# Altium integrated library Renesas Microcontroller M32R.IntLib: 17 symbols (part 2 of 2)
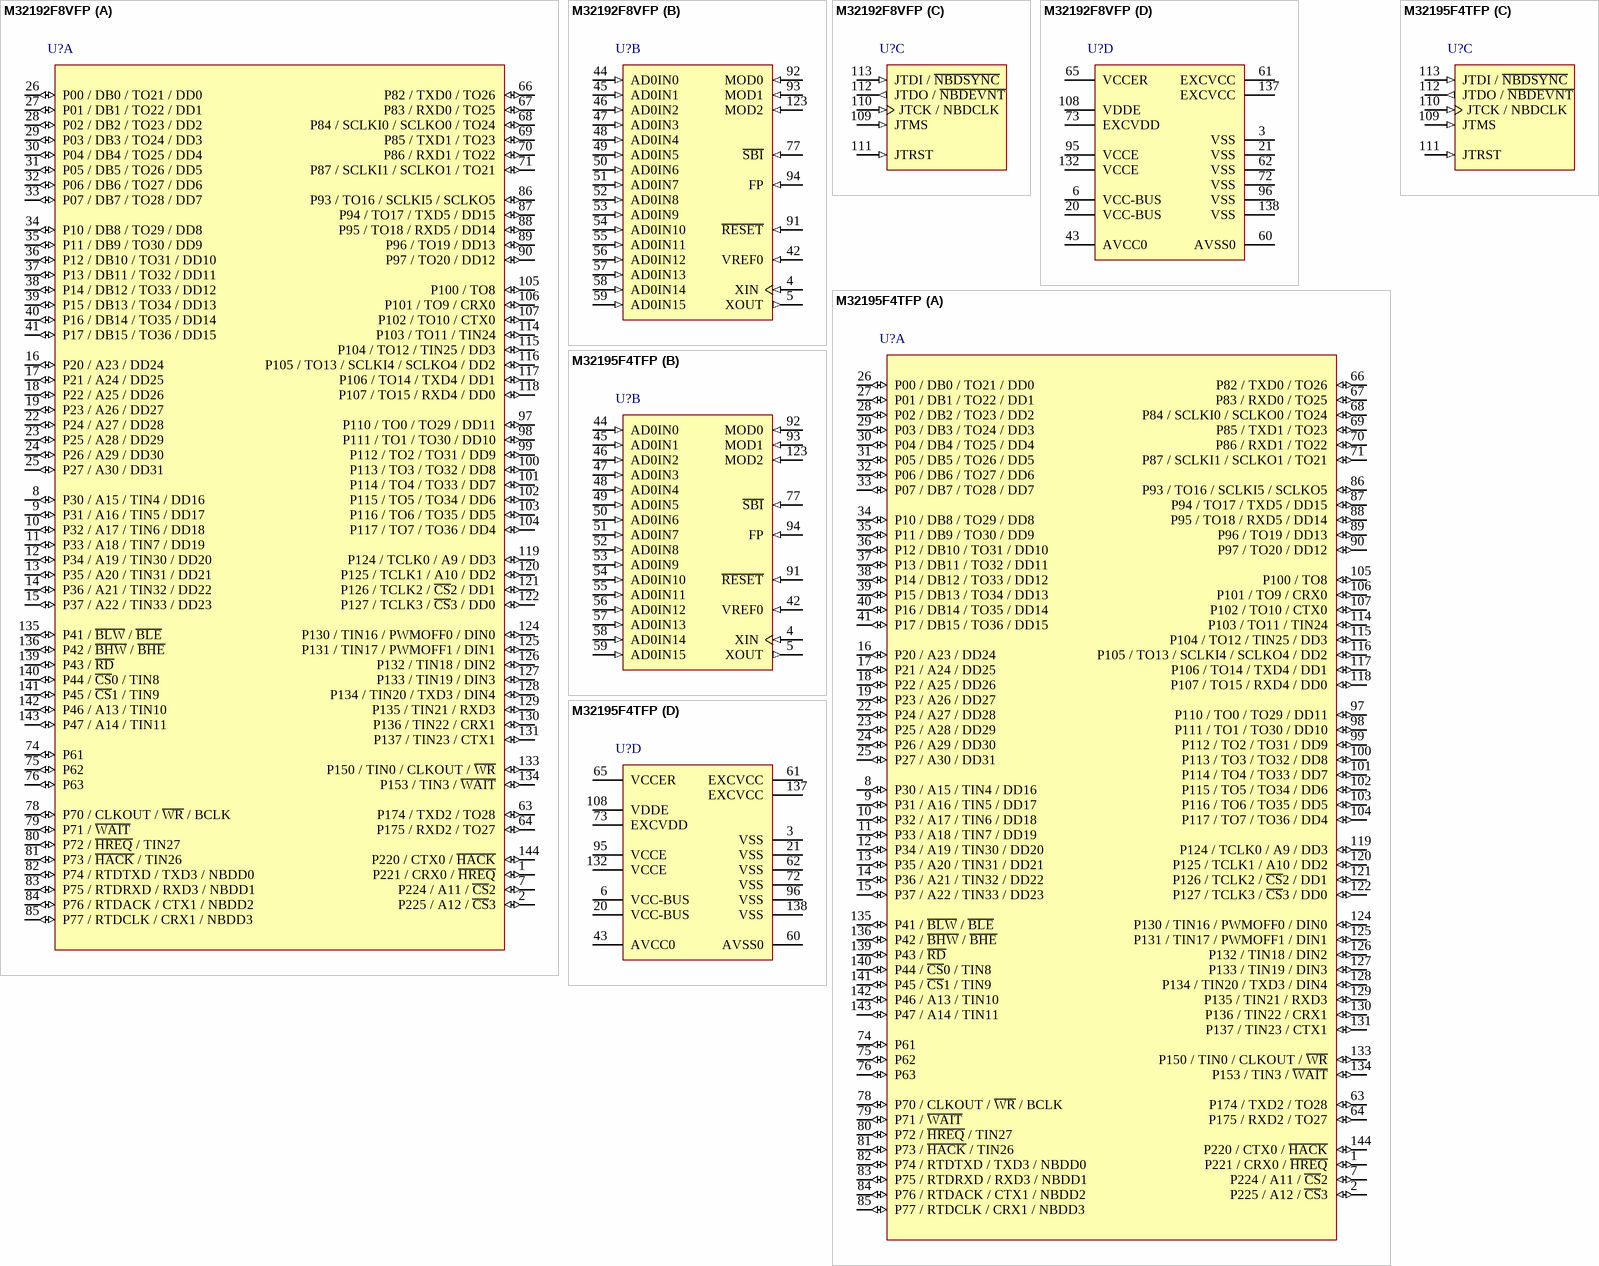
[diagram p9: symbols M32192F8VFP to M32195F4TFP]

## M32195F4TFP
designator U?
Flash Memory M32R/ECU Series, 32195 Group MCU, 160 MHz, 512K ROM, 32K RAM, 144P6Q-A Pkg, -40 to 85 deg C; Published: 28-Aug-2009; DatasheetVersion: Rev.1.10, Apr-2007; PackageVersion: Sep-2005; PackageReference: PLQP0144KA-A; Publisher: Altium Limited; PackageDescription: 144-Pin Plastic Low Profile QFP, 20 x 20 x 1.4 mm Body, 0.5 mm Pitch; Code_JEITA: P-LQFP144-20x20-0.50; Code_IPC: SQFP50P2200X2200-144; ComponentLink1Description: Manufacturer Link; ComponentLink1URL: http://sg.renesas.com/fmwk.jsp?cnt=m32r_family_landing.jsp&fp=/products/mpumcu/m32r_family/; ComponentLink2Description: Datasheet; ComponentLink2URL: http://documentation.renesas.com/eng/products/mpumcu/rej09b0123_32192_195_196hm.pdf; ComponentLink3Description: Packaging Specification; ComponentLink3URL: http://sg.renesas.com/media/products/common_info/package/pdf/ic/code/plqp0144ka_a.pdf
footprint PLQP0144KA-A_N (Shrink QFP, 144-Leads, Body 20x20mm, Pitch 0.5mm, IPC Medium Density)
footprint PLQP0144KA-A_L (Shrink QFP, 144-Leads, Body 20x20mm, Pitch 0.5mm, IPC High Density)
footprint PLQP0144KA-A_M (Shrink QFP, 144-Leads, Body 20x20mm, Pitch 0.5mm, IPC Low Density)
part A pins: 1 P221 / CRX0 / ~{HREQ} (io), 2 P225 / A12 / ~{CS}3 (io), 7 P224 / A11 / ~{CS}2 (io), 8 P30 / A15 / TIN4 / DD16 (io), 9 P31 / A16 / TIN5 / DD17 (io), 10 P32 / A17 / TIN6 / DD18 (io), 11 P33 / A18 / TIN7 / DD19 (io), 12 P34 / A19 / TIN30 / DD20 (io), 13 P35 / A20 / TIN31 / DD21 (io), 14 P36 / A21 / TIN32 / DD22 (io), 15 P37 / A22 / TIN33 / DD23 (io), 16 P20 / A23 / DD24 (io), 17 P21 / A24 / DD25 (io), 18 P22 / A25 / DD26 (io), 19 P23 / A26 / DD27 (io), 22 P24 / A27 / DD28 (io), 23 P25 / A28 / DD29 (io), 24 P26 / A29 / DD30 (io), 25 P27 / A30 / DD31 (io), 26 P00 / DB0 / TO21 / DD0 (io), 27 P01 / DB1 / TO22 / DD1 (io), 28 P02 / DB2 / TO23 / DD2 (io), 29 P03 / DB3 / TO24 / DD3 (io), 30 P04 / DB4 / TO25 / DD4 (io), 31 P05 / DB5 / TO26 / DD5 (io), 32 P06 / DB6 / TO27 / DD6 (io), 33 P07 / DB7 / TO28 / DD7 (io), 34 P10 / DB8 / TO29 / DD8 (io), 35 P11 / DB9 / TO30 / DD9 (io), 36 P12 / DB10 / TO31 / DD10 (io), 37 P13 / DB11 / TO32 / DD11 (io), 38 P14 / DB12 / TO33 / DD12 (io), 39 P15 / DB13 / TO34 / DD13 (io), 40 P16 / DB14 / TO35 / DD14 (io), 41 P17 / DB15 / TO36 / DD15 (io), 63 P174 / TXD2 / TO28 (io), 64 P175 / RXD2 / TO27 (io), 66 P82 / TXD0 / TO26 (io), 67 P83 / RXD0 / TO25 (io), 68 P84 / SCLKI0 / SCLKO0 / TO24 (io), 69 P85 / TXD1 / TO23 (io), 70 P86 / RXD1 / TO22 (io), 71 P87 / SCLKI1 / SCLKO1 / TO21 (io), 74 P61 (io), 75 P62 (io), 76 P63 (io), 78 P70 / CLKOUT / ~{WR} / BCLK (io), 79 P71 / ~{WAIT} (io), 80 P72 / ~{HREQ} / TIN27 (io), 81 P73 / ~{HACK} / TIN26 (io), 82 P74 / RTDTXD / TXD3 / NBDD0 (io), 83 P75 / RTDRXD / RXD3 / NBDD1 (io), 84 P76 / RTDACK / CTX1 / NBDD2 (io), 85 P77 / RTDCLK / CRX1 / NBDD3 (io), 86 P93 / TO16 / SCLKI5 / SCLKO5 (io), 87 P94 / TO17 / TXD5 / DD15 (io), 88 P95 / TO18 / RXD5 / DD14 (io), 89 P96 / TO19 / DD13 (io), 90 P97 / TO20 / DD12 (io), 97 P110 / TO0 / TO29 / DD11 (io), 98 P111 / TO1 / TO30 / DD10 (io), 99 P112 / TO2 / TO31 / DD9 (io), 100 P113 / TO3 / TO32 / DD8 (io), 101 P114 / TO4 / TO33 / DD7 (io), 102 P115 / TO5 / TO34 / DD6 (io), 103 P116 / TO6 / TO35 / DD5 (io), 104 P117 / TO7 / TO36 / DD4 (io), 105 P100 / TO8 (io), 106 P101 / TO9 / CRX0 (io), 107 P102 / TO10 / CTX0 (io), 114 P103 / TO11 / TIN24 (io), 115 P104 / TO12 / TIN25 / DD3 (io), 116 P105 / TO13 / SCLKI4 / SCLKO4 / DD2 (io), 117 P106 / TO14 / TXD4 / DD1 (io), 118 P107 / TO15 / RXD4 / DD0 (io), 119 P124 / TCLK0 / A9 / DD3 (io), 120 P125 / TCLK1 / A10 / DD2 (io), 121 P126 / TCLK2 / ~{CS}2 / DD1 (io), 122 P127 / TCLK3 / ~{CS}3 / DD0 (io), 124 P130 / TIN16 / PWMOFF0 / DIN0 (io), 125 P131 / TIN17 / PWMOFF1 / DIN1 (io), 126 P132 / TIN18 / DIN2 (io), 127 P133 / TIN19 / DIN3 (io), 128 P134 / TIN20 / TXD3 / DIN4 (io), 129 P135 / TIN21 / RXD3 (io), 130 P136 / TIN22 / CRX1 (io), 131 P137 / TIN23 / CTX1 (io), 133 P150 / TIN0 / CLKOUT / ~{WR} (io), 134 P153 / TIN3 / ~{WAIT} (io), 135 P41 / ~{BLW} / ~{BLE} (io), 136 P42 / ~{BHW} / ~{BHE} (io), 139 P43 / ~{RD} (io), 140 P44 / ~{CS}0 / TIN8 (io), 141 P45 / ~{CS}1 / TIN9 (io), 142 P46 / A13 / TIN10 (io), 143 P47 / A14 / TIN11 (io), 144 P220 / CTX0 / ~{HACK} (io)
part B pins: 4 XIN (in), 5 XOUT (out), 42 VREF0 (in), 44 AD0IN0 (in), 45 AD0IN1 (in), 46 AD0IN2 (in), 47 AD0IN3 (in), 48 AD0IN4 (in), 49 AD0IN5 (in), 50 AD0IN6 (in), 51 AD0IN7 (in), 52 AD0IN8 (in), 53 AD0IN9 (in), 54 AD0IN10 (in), 55 AD0IN11 (in), 56 AD0IN12 (in), 57 AD0IN13 (in), 58 AD0IN14 (in), 59 AD0IN15 (in), 77 ~{SBI} (in), 91 ~{RESET} (in), 92 MOD0 (in), 93 MOD1 (in), 94 FP (in), 123 MOD2 (in)
part C pins: 109 JTMS (in), 110 JTCK / NBDCLK (in), 111 JTRST (in), 112 JTDO / ~{NBDEVNT} (out), 113 JTDI / ~{NBDSYNC} (in)
part D pins: 3 VSS (power), 6 VCC-BUS (power), 20 VCC-BUS (power), 21 VSS (power), 43 AVCC0 (power), 60 AVSS0 (power), 61 EXCVCC, 62 VSS (power), 65 VCCER (power), 72 VSS (power), 73 EXCVDD, 95 VCCE (power), 96 VSS (power), 108 VDDE (power), 132 VCCE (power), 137 EXCVCC, 138 VSS (power)

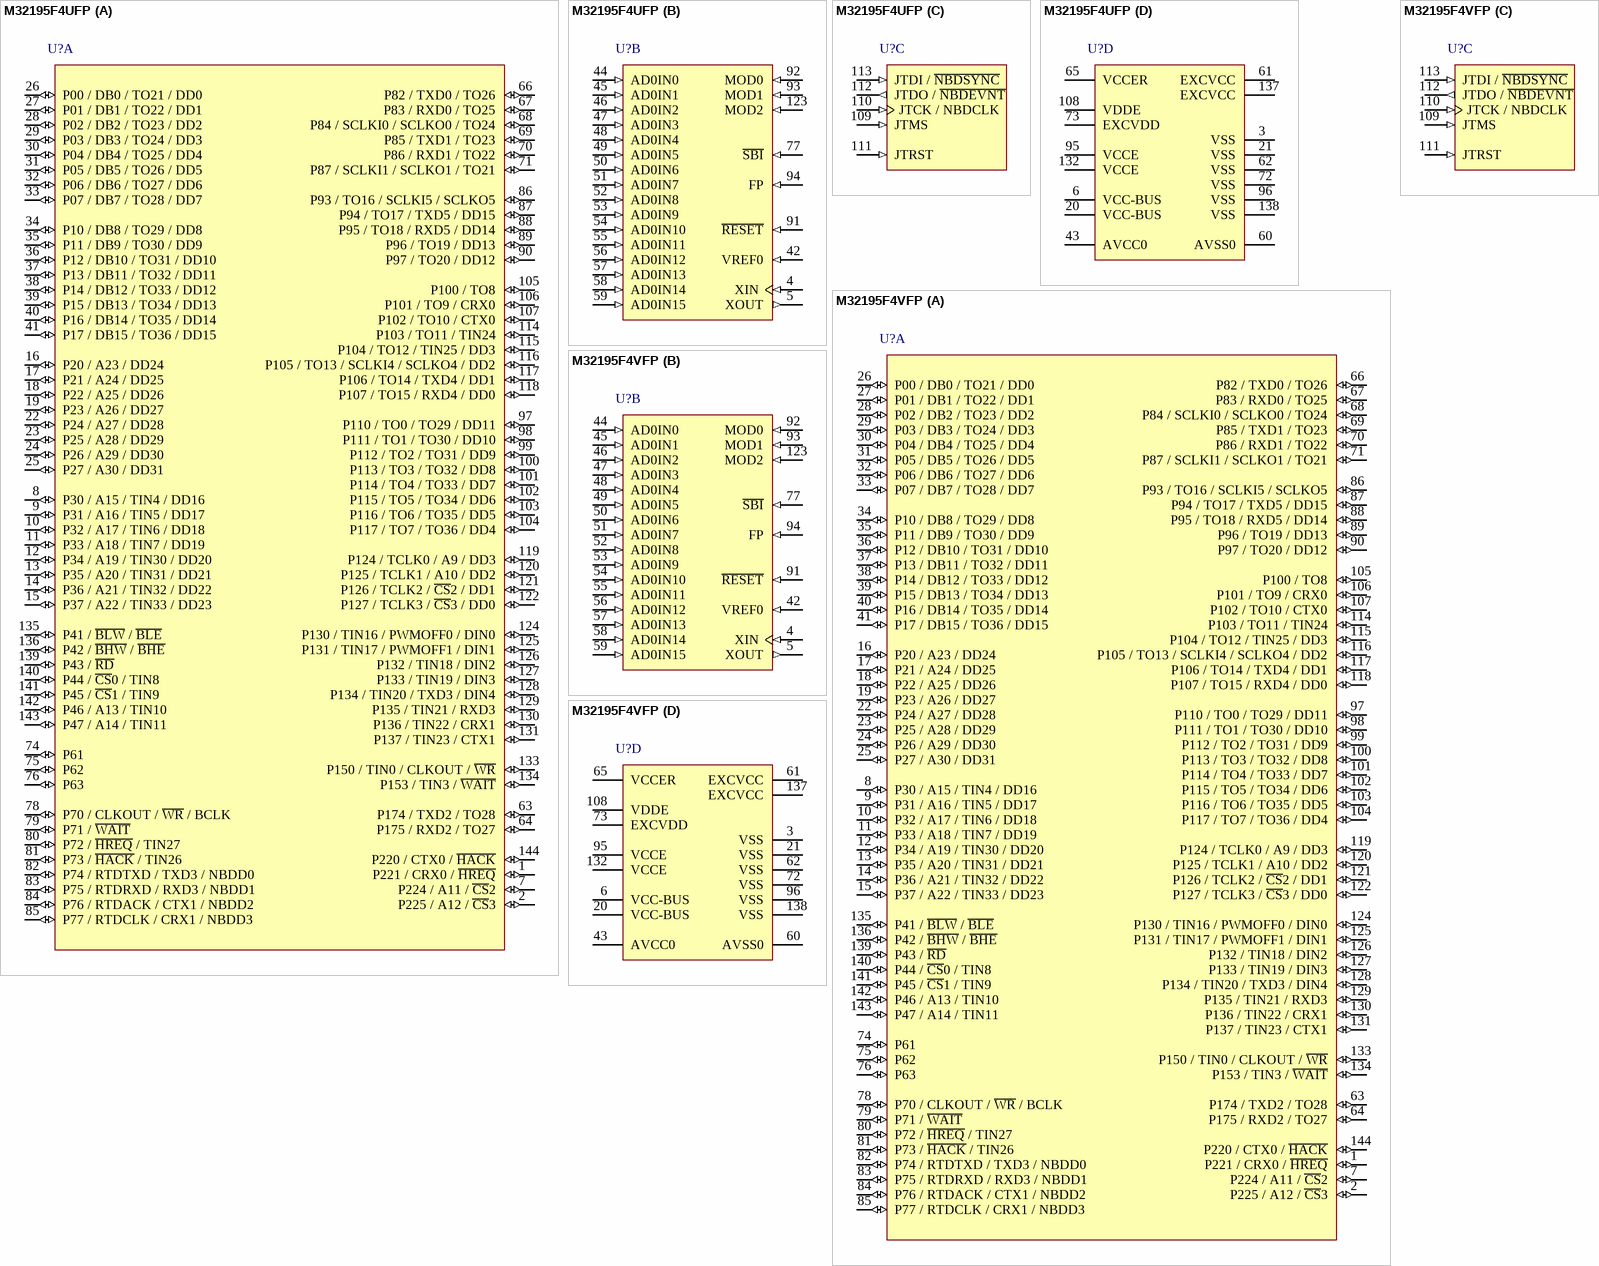
[diagram p6: symbols M32195F4UFP to M32195F4VFP]

## M32195F4UFP
designator U?
Flash Memory M32R/ECU Series, 32195 Group MCU, 160 MHz, 512K ROM, 32K RAM, 144P6Q-A Pkg, -40 to 105 deg C; Published: 28-Aug-2009; DatasheetVersion: Rev.1.10, Apr-2007; PackageVersion: Sep-2005; PackageReference: PLQP0144KA-A; Publisher: Altium Limited; PackageDescription: 144-Pin Plastic Low Profile QFP, 20 x 20 x 1.4 mm Body, 0.5 mm Pitch; Code_JEITA: P-LQFP144-20x20-0.50; Code_IPC: SQFP50P2200X2200-144; ComponentLink1Description: Manufacturer Link; ComponentLink1URL: http://sg.renesas.com/fmwk.jsp?cnt=m32r_family_landing.jsp&fp=/products/mpumcu/m32r_family/; ComponentLink2Description: Datasheet; ComponentLink2URL: http://documentation.renesas.com/eng/products/mpumcu/rej09b0123_32192_195_196hm.pdf; ComponentLink3Description: Packaging Specification; ComponentLink3URL: http://sg.renesas.com/media/products/common_info/package/pdf/ic/code/plqp0144ka_a.pdf
footprint PLQP0144KA-A_N (Shrink QFP, 144-Leads, Body 20x20mm, Pitch 0.5mm, IPC Medium Density)
footprint PLQP0144KA-A_L (Shrink QFP, 144-Leads, Body 20x20mm, Pitch 0.5mm, IPC High Density)
footprint PLQP0144KA-A_M (Shrink QFP, 144-Leads, Body 20x20mm, Pitch 0.5mm, IPC Low Density)
part A pins: 1 P221 / CRX0 / ~{HREQ} (io), 2 P225 / A12 / ~{CS}3 (io), 7 P224 / A11 / ~{CS}2 (io), 8 P30 / A15 / TIN4 / DD16 (io), 9 P31 / A16 / TIN5 / DD17 (io), 10 P32 / A17 / TIN6 / DD18 (io), 11 P33 / A18 / TIN7 / DD19 (io), 12 P34 / A19 / TIN30 / DD20 (io), 13 P35 / A20 / TIN31 / DD21 (io), 14 P36 / A21 / TIN32 / DD22 (io), 15 P37 / A22 / TIN33 / DD23 (io), 16 P20 / A23 / DD24 (io), 17 P21 / A24 / DD25 (io), 18 P22 / A25 / DD26 (io), 19 P23 / A26 / DD27 (io), 22 P24 / A27 / DD28 (io), 23 P25 / A28 / DD29 (io), 24 P26 / A29 / DD30 (io), 25 P27 / A30 / DD31 (io), 26 P00 / DB0 / TO21 / DD0 (io), 27 P01 / DB1 / TO22 / DD1 (io), 28 P02 / DB2 / TO23 / DD2 (io), 29 P03 / DB3 / TO24 / DD3 (io), 30 P04 / DB4 / TO25 / DD4 (io), 31 P05 / DB5 / TO26 / DD5 (io), 32 P06 / DB6 / TO27 / DD6 (io), 33 P07 / DB7 / TO28 / DD7 (io), 34 P10 / DB8 / TO29 / DD8 (io), 35 P11 / DB9 / TO30 / DD9 (io), 36 P12 / DB10 / TO31 / DD10 (io), 37 P13 / DB11 / TO32 / DD11 (io), 38 P14 / DB12 / TO33 / DD12 (io), 39 P15 / DB13 / TO34 / DD13 (io), 40 P16 / DB14 / TO35 / DD14 (io), 41 P17 / DB15 / TO36 / DD15 (io), 63 P174 / TXD2 / TO28 (io), 64 P175 / RXD2 / TO27 (io), 66 P82 / TXD0 / TO26 (io), 67 P83 / RXD0 / TO25 (io), 68 P84 / SCLKI0 / SCLKO0 / TO24 (io), 69 P85 / TXD1 / TO23 (io), 70 P86 / RXD1 / TO22 (io), 71 P87 / SCLKI1 / SCLKO1 / TO21 (io), 74 P61 (io), 75 P62 (io), 76 P63 (io), 78 P70 / CLKOUT / ~{WR} / BCLK (io), 79 P71 / ~{WAIT} (io), 80 P72 / ~{HREQ} / TIN27 (io), 81 P73 / ~{HACK} / TIN26 (io), 82 P74 / RTDTXD / TXD3 / NBDD0 (io), 83 P75 / RTDRXD / RXD3 / NBDD1 (io), 84 P76 / RTDACK / CTX1 / NBDD2 (io), 85 P77 / RTDCLK / CRX1 / NBDD3 (io), 86 P93 / TO16 / SCLKI5 / SCLKO5 (io), 87 P94 / TO17 / TXD5 / DD15 (io), 88 P95 / TO18 / RXD5 / DD14 (io), 89 P96 / TO19 / DD13 (io), 90 P97 / TO20 / DD12 (io), 97 P110 / TO0 / TO29 / DD11 (io), 98 P111 / TO1 / TO30 / DD10 (io), 99 P112 / TO2 / TO31 / DD9 (io), 100 P113 / TO3 / TO32 / DD8 (io), 101 P114 / TO4 / TO33 / DD7 (io), 102 P115 / TO5 / TO34 / DD6 (io), 103 P116 / TO6 / TO35 / DD5 (io), 104 P117 / TO7 / TO36 / DD4 (io), 105 P100 / TO8 (io), 106 P101 / TO9 / CRX0 (io), 107 P102 / TO10 / CTX0 (io), 114 P103 / TO11 / TIN24 (io), 115 P104 / TO12 / TIN25 / DD3 (io), 116 P105 / TO13 / SCLKI4 / SCLKO4 / DD2 (io), 117 P106 / TO14 / TXD4 / DD1 (io), 118 P107 / TO15 / RXD4 / DD0 (io), 119 P124 / TCLK0 / A9 / DD3 (io), 120 P125 / TCLK1 / A10 / DD2 (io), 121 P126 / TCLK2 / ~{CS}2 / DD1 (io), 122 P127 / TCLK3 / ~{CS}3 / DD0 (io), 124 P130 / TIN16 / PWMOFF0 / DIN0 (io), 125 P131 / TIN17 / PWMOFF1 / DIN1 (io), 126 P132 / TIN18 / DIN2 (io), 127 P133 / TIN19 / DIN3 (io), 128 P134 / TIN20 / TXD3 / DIN4 (io), 129 P135 / TIN21 / RXD3 (io), 130 P136 / TIN22 / CRX1 (io), 131 P137 / TIN23 / CTX1 (io), 133 P150 / TIN0 / CLKOUT / ~{WR} (io), 134 P153 / TIN3 / ~{WAIT} (io), 135 P41 / ~{BLW} / ~{BLE} (io), 136 P42 / ~{BHW} / ~{BHE} (io), 139 P43 / ~{RD} (io), 140 P44 / ~{CS}0 / TIN8 (io), 141 P45 / ~{CS}1 / TIN9 (io), 142 P46 / A13 / TIN10 (io), 143 P47 / A14 / TIN11 (io), 144 P220 / CTX0 / ~{HACK} (io)
part B pins: 4 XIN (in), 5 XOUT (out), 42 VREF0 (in), 44 AD0IN0 (in), 45 AD0IN1 (in), 46 AD0IN2 (in), 47 AD0IN3 (in), 48 AD0IN4 (in), 49 AD0IN5 (in), 50 AD0IN6 (in), 51 AD0IN7 (in), 52 AD0IN8 (in), 53 AD0IN9 (in), 54 AD0IN10 (in), 55 AD0IN11 (in), 56 AD0IN12 (in), 57 AD0IN13 (in), 58 AD0IN14 (in), 59 AD0IN15 (in), 77 ~{SBI} (in), 91 ~{RESET} (in), 92 MOD0 (in), 93 MOD1 (in), 94 FP (in), 123 MOD2 (in)
part C pins: 109 JTMS (in), 110 JTCK / NBDCLK (in), 111 JTRST (in), 112 JTDO / ~{NBDEVNT} (out), 113 JTDI / ~{NBDSYNC} (in)
part D pins: 3 VSS (power), 6 VCC-BUS (power), 20 VCC-BUS (power), 21 VSS (power), 43 AVCC0 (power), 60 AVSS0 (power), 61 EXCVCC, 62 VSS (power), 65 VCCER (power), 72 VSS (power), 73 EXCVDD, 95 VCCE (power), 96 VSS (power), 108 VDDE (power), 132 VCCE (power), 137 EXCVCC, 138 VSS (power)

## M32195F4VFP
designator U?
Flash Memory M32R/ECU Series, 32195 Group MCU, 128 MHz, 512K ROM, 32K RAM, 144P6Q-A Pkg, -40 to 125 deg C; Published: 28-Aug-2009; DatasheetVersion: Rev.1.10, Apr-2007; PackageVersion: Sep-2005; PackageReference: PLQP0144KA-A; Publisher: Altium Limited; PackageDescription: 144-Pin Plastic Low Profile QFP, 20 x 20 x 1.4 mm Body, 0.5 mm Pitch; Code_JEITA: P-LQFP144-20x20-0.50; Code_IPC: SQFP50P2200X2200-144; ComponentLink1Description: Manufacturer Link; ComponentLink1URL: http://sg.renesas.com/fmwk.jsp?cnt=m32r_family_landing.jsp&fp=/products/mpumcu/m32r_family/; ComponentLink2Description: Datasheet; ComponentLink2URL: http://documentation.renesas.com/eng/products/mpumcu/rej09b0123_32192_195_196hm.pdf; ComponentLink3Description: Packaging Specification; ComponentLink3URL: http://sg.renesas.com/media/products/common_info/package/pdf/ic/code/plqp0144ka_a.pdf
footprint PLQP0144KA-A_N (Shrink QFP, 144-Leads, Body 20x20mm, Pitch 0.5mm, IPC Medium Density)
footprint PLQP0144KA-A_L (Shrink QFP, 144-Leads, Body 20x20mm, Pitch 0.5mm, IPC High Density)
footprint PLQP0144KA-A_M (Shrink QFP, 144-Leads, Body 20x20mm, Pitch 0.5mm, IPC Low Density)
part A pins: 1 P221 / CRX0 / ~{HREQ} (io), 2 P225 / A12 / ~{CS}3 (io), 7 P224 / A11 / ~{CS}2 (io), 8 P30 / A15 / TIN4 / DD16 (io), 9 P31 / A16 / TIN5 / DD17 (io), 10 P32 / A17 / TIN6 / DD18 (io), 11 P33 / A18 / TIN7 / DD19 (io), 12 P34 / A19 / TIN30 / DD20 (io), 13 P35 / A20 / TIN31 / DD21 (io), 14 P36 / A21 / TIN32 / DD22 (io), 15 P37 / A22 / TIN33 / DD23 (io), 16 P20 / A23 / DD24 (io), 17 P21 / A24 / DD25 (io), 18 P22 / A25 / DD26 (io), 19 P23 / A26 / DD27 (io), 22 P24 / A27 / DD28 (io), 23 P25 / A28 / DD29 (io), 24 P26 / A29 / DD30 (io), 25 P27 / A30 / DD31 (io), 26 P00 / DB0 / TO21 / DD0 (io), 27 P01 / DB1 / TO22 / DD1 (io), 28 P02 / DB2 / TO23 / DD2 (io), 29 P03 / DB3 / TO24 / DD3 (io), 30 P04 / DB4 / TO25 / DD4 (io), 31 P05 / DB5 / TO26 / DD5 (io), 32 P06 / DB6 / TO27 / DD6 (io), 33 P07 / DB7 / TO28 / DD7 (io), 34 P10 / DB8 / TO29 / DD8 (io), 35 P11 / DB9 / TO30 / DD9 (io), 36 P12 / DB10 / TO31 / DD10 (io), 37 P13 / DB11 / TO32 / DD11 (io), 38 P14 / DB12 / TO33 / DD12 (io), 39 P15 / DB13 / TO34 / DD13 (io), 40 P16 / DB14 / TO35 / DD14 (io), 41 P17 / DB15 / TO36 / DD15 (io), 63 P174 / TXD2 / TO28 (io), 64 P175 / RXD2 / TO27 (io), 66 P82 / TXD0 / TO26 (io), 67 P83 / RXD0 / TO25 (io), 68 P84 / SCLKI0 / SCLKO0 / TO24 (io), 69 P85 / TXD1 / TO23 (io), 70 P86 / RXD1 / TO22 (io), 71 P87 / SCLKI1 / SCLKO1 / TO21 (io), 74 P61 (io), 75 P62 (io), 76 P63 (io), 78 P70 / CLKOUT / ~{WR} / BCLK (io), 79 P71 / ~{WAIT} (io), 80 P72 / ~{HREQ} / TIN27 (io), 81 P73 / ~{HACK} / TIN26 (io), 82 P74 / RTDTXD / TXD3 / NBDD0 (io), 83 P75 / RTDRXD / RXD3 / NBDD1 (io), 84 P76 / RTDACK / CTX1 / NBDD2 (io), 85 P77 / RTDCLK / CRX1 / NBDD3 (io), 86 P93 / TO16 / SCLKI5 / SCLKO5 (io), 87 P94 / TO17 / TXD5 / DD15 (io), 88 P95 / TO18 / RXD5 / DD14 (io), 89 P96 / TO19 / DD13 (io), 90 P97 / TO20 / DD12 (io), 97 P110 / TO0 / TO29 / DD11 (io), 98 P111 / TO1 / TO30 / DD10 (io), 99 P112 / TO2 / TO31 / DD9 (io), 100 P113 / TO3 / TO32 / DD8 (io), 101 P114 / TO4 / TO33 / DD7 (io), 102 P115 / TO5 / TO34 / DD6 (io), 103 P116 / TO6 / TO35 / DD5 (io), 104 P117 / TO7 / TO36 / DD4 (io), 105 P100 / TO8 (io), 106 P101 / TO9 / CRX0 (io), 107 P102 / TO10 / CTX0 (io), 114 P103 / TO11 / TIN24 (io), 115 P104 / TO12 / TIN25 / DD3 (io), 116 P105 / TO13 / SCLKI4 / SCLKO4 / DD2 (io), 117 P106 / TO14 / TXD4 / DD1 (io), 118 P107 / TO15 / RXD4 / DD0 (io), 119 P124 / TCLK0 / A9 / DD3 (io), 120 P125 / TCLK1 / A10 / DD2 (io), 121 P126 / TCLK2 / ~{CS}2 / DD1 (io), 122 P127 / TCLK3 / ~{CS}3 / DD0 (io), 124 P130 / TIN16 / PWMOFF0 / DIN0 (io), 125 P131 / TIN17 / PWMOFF1 / DIN1 (io), 126 P132 / TIN18 / DIN2 (io), 127 P133 / TIN19 / DIN3 (io), 128 P134 / TIN20 / TXD3 / DIN4 (io), 129 P135 / TIN21 / RXD3 (io), 130 P136 / TIN22 / CRX1 (io), 131 P137 / TIN23 / CTX1 (io), 133 P150 / TIN0 / CLKOUT / ~{WR} (io), 134 P153 / TIN3 / ~{WAIT} (io), 135 P41 / ~{BLW} / ~{BLE} (io), 136 P42 / ~{BHW} / ~{BHE} (io), 139 P43 / ~{RD} (io), 140 P44 / ~{CS}0 / TIN8 (io), 141 P45 / ~{CS}1 / TIN9 (io), 142 P46 / A13 / TIN10 (io), 143 P47 / A14 / TIN11 (io), 144 P220 / CTX0 / ~{HACK} (io)
part B pins: 4 XIN (in), 5 XOUT (out), 42 VREF0 (in), 44 AD0IN0 (in), 45 AD0IN1 (in), 46 AD0IN2 (in), 47 AD0IN3 (in), 48 AD0IN4 (in), 49 AD0IN5 (in), 50 AD0IN6 (in), 51 AD0IN7 (in), 52 AD0IN8 (in), 53 AD0IN9 (in), 54 AD0IN10 (in), 55 AD0IN11 (in), 56 AD0IN12 (in), 57 AD0IN13 (in), 58 AD0IN14 (in), 59 AD0IN15 (in), 77 ~{SBI} (in), 91 ~{RESET} (in), 92 MOD0 (in), 93 MOD1 (in), 94 FP (in), 123 MOD2 (in)
part C pins: 109 JTMS (in), 110 JTCK / NBDCLK (in), 111 JTRST (in), 112 JTDO / ~{NBDEVNT} (out), 113 JTDI / ~{NBDSYNC} (in)
part D pins: 3 VSS (power), 6 VCC-BUS (power), 20 VCC-BUS (power), 21 VSS (power), 43 AVCC0 (power), 60 AVSS0 (power), 61 EXCVCC, 62 VSS (power), 65 VCCER (power), 72 VSS (power), 73 EXCVDD, 95 VCCE (power), 96 VSS (power), 108 VDDE (power), 132 VCCE (power), 137 EXCVCC, 138 VSS (power)

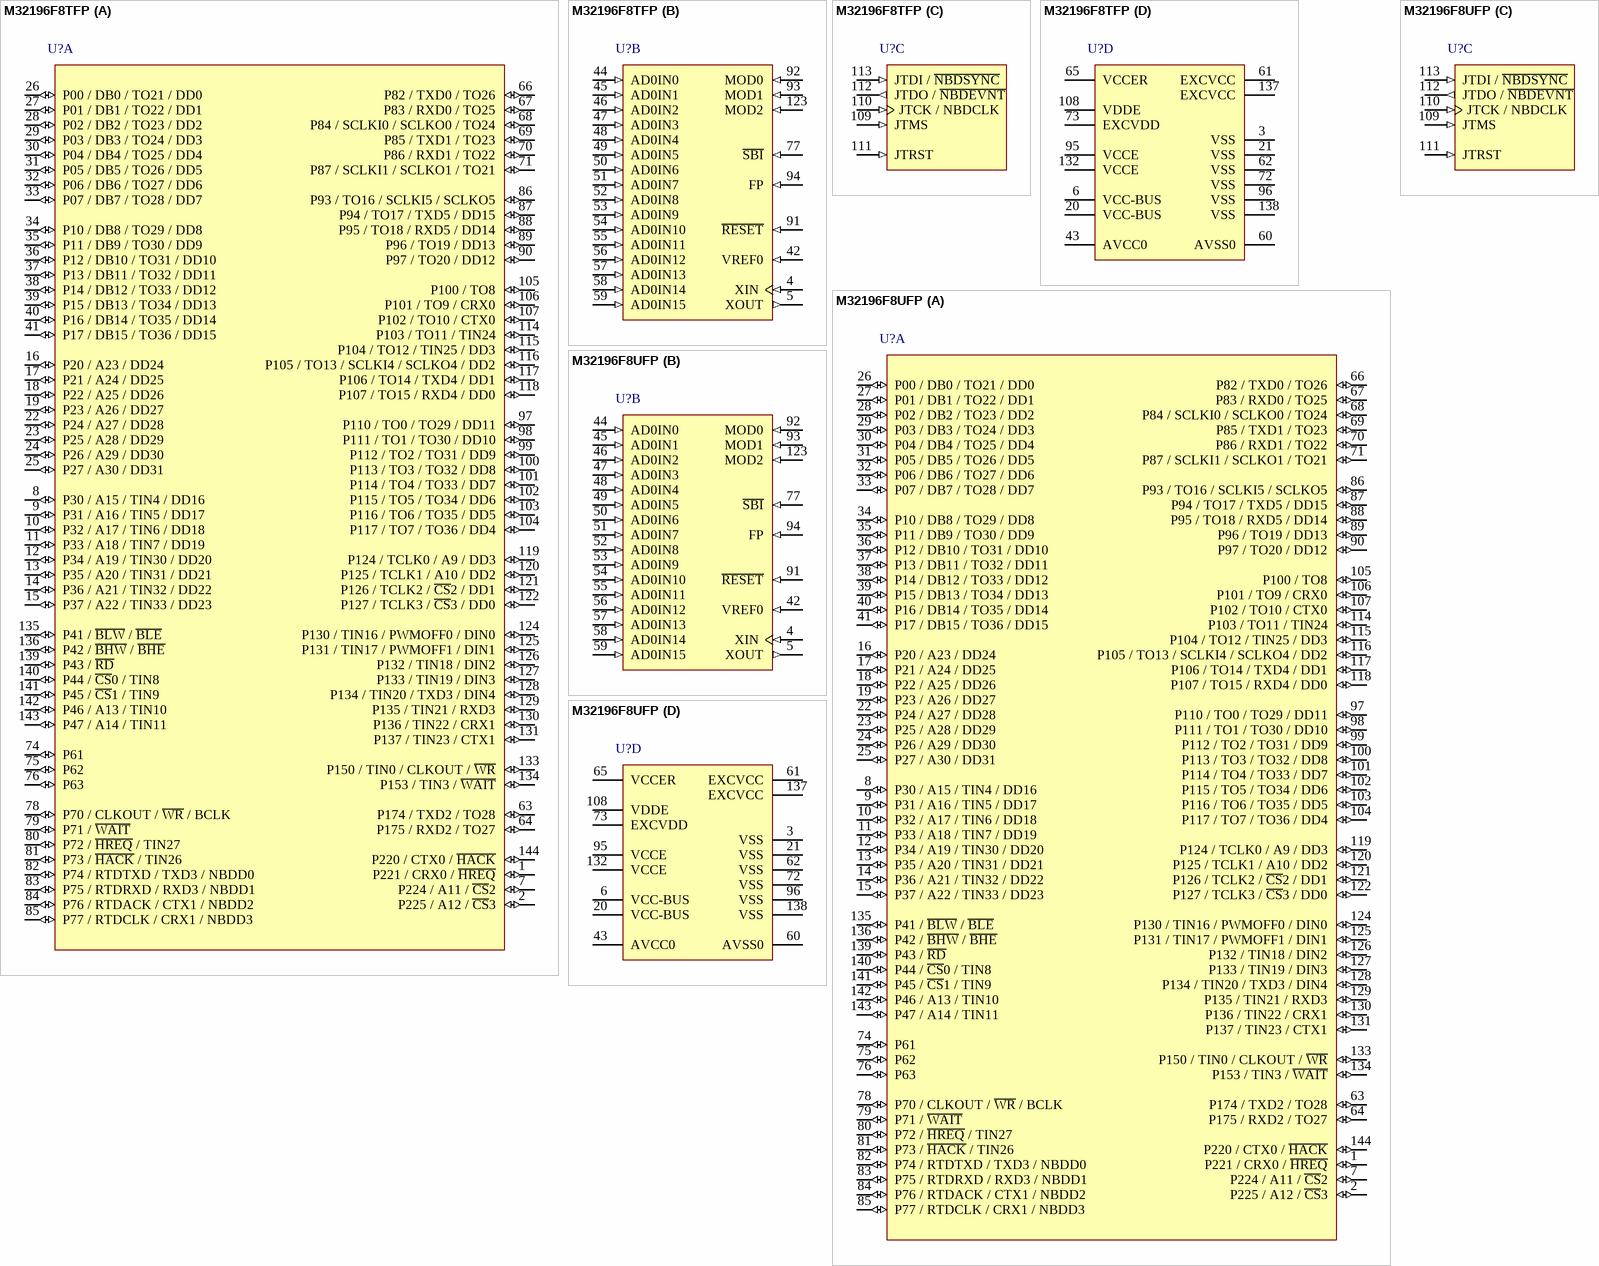
[diagram p7: symbols M32196F8TFP to M32196F8UFP]

## M32196F8TFP
designator U?
Flash Memory M32R/ECU Series, 32192 Group MCU, 160 MHz, 1M ROM, 64K RAM, 144P6Q-A Pkg, -40 to 85 deg C; Published: 28-Aug-2009; DatasheetVersion: Rev.1.10, Apr-2007; PackageVersion: Sep-2005; PackageReference: PLQP0144KA-A; Publisher: Altium Limited; PackageDescription: 144-Pin Plastic Low Profile QFP, 20 x 20 x 1.4 mm Body, 0.5 mm Pitch; Code_JEITA: P-LQFP144-20x20-0.50; Code_IPC: SQFP50P2200X2200-144; ComponentLink1Description: Manufacturer Link; ComponentLink1URL: http://sg.renesas.com/fmwk.jsp?cnt=m32r_family_landing.jsp&fp=/products/mpumcu/m32r_family/; ComponentLink2Description: Datasheet; ComponentLink2URL: http://documentation.renesas.com/eng/products/mpumcu/rej09b0123_32192_195_196hm.pdf; ComponentLink3Description: Packaging Specification; ComponentLink3URL: http://sg.renesas.com/media/products/common_info/package/pdf/ic/code/plqp0144ka_a.pdf
footprint PLQP0144KA-A_N (Shrink QFP, 144-Leads, Body 20x20mm, Pitch 0.5mm, IPC Medium Density)
footprint PLQP0144KA-A_L (Shrink QFP, 144-Leads, Body 20x20mm, Pitch 0.5mm, IPC High Density)
footprint PLQP0144KA-A_M (Shrink QFP, 144-Leads, Body 20x20mm, Pitch 0.5mm, IPC Low Density)
part A pins: 1 P221 / CRX0 / ~{HREQ} (io), 2 P225 / A12 / ~{CS}3 (io), 7 P224 / A11 / ~{CS}2 (io), 8 P30 / A15 / TIN4 / DD16 (io), 9 P31 / A16 / TIN5 / DD17 (io), 10 P32 / A17 / TIN6 / DD18 (io), 11 P33 / A18 / TIN7 / DD19 (io), 12 P34 / A19 / TIN30 / DD20 (io), 13 P35 / A20 / TIN31 / DD21 (io), 14 P36 / A21 / TIN32 / DD22 (io), 15 P37 / A22 / TIN33 / DD23 (io), 16 P20 / A23 / DD24 (io), 17 P21 / A24 / DD25 (io), 18 P22 / A25 / DD26 (io), 19 P23 / A26 / DD27 (io), 22 P24 / A27 / DD28 (io), 23 P25 / A28 / DD29 (io), 24 P26 / A29 / DD30 (io), 25 P27 / A30 / DD31 (io), 26 P00 / DB0 / TO21 / DD0 (io), 27 P01 / DB1 / TO22 / DD1 (io), 28 P02 / DB2 / TO23 / DD2 (io), 29 P03 / DB3 / TO24 / DD3 (io), 30 P04 / DB4 / TO25 / DD4 (io), 31 P05 / DB5 / TO26 / DD5 (io), 32 P06 / DB6 / TO27 / DD6 (io), 33 P07 / DB7 / TO28 / DD7 (io), 34 P10 / DB8 / TO29 / DD8 (io), 35 P11 / DB9 / TO30 / DD9 (io), 36 P12 / DB10 / TO31 / DD10 (io), 37 P13 / DB11 / TO32 / DD11 (io), 38 P14 / DB12 / TO33 / DD12 (io), 39 P15 / DB13 / TO34 / DD13 (io), 40 P16 / DB14 / TO35 / DD14 (io), 41 P17 / DB15 / TO36 / DD15 (io), 63 P174 / TXD2 / TO28 (io), 64 P175 / RXD2 / TO27 (io), 66 P82 / TXD0 / TO26 (io), 67 P83 / RXD0 / TO25 (io), 68 P84 / SCLKI0 / SCLKO0 / TO24 (io), 69 P85 / TXD1 / TO23 (io), 70 P86 / RXD1 / TO22 (io), 71 P87 / SCLKI1 / SCLKO1 / TO21 (io), 74 P61 (io), 75 P62 (io), 76 P63 (io), 78 P70 / CLKOUT / ~{WR} / BCLK (io), 79 P71 / ~{WAIT} (io), 80 P72 / ~{HREQ} / TIN27 (io), 81 P73 / ~{HACK} / TIN26 (io), 82 P74 / RTDTXD / TXD3 / NBDD0 (io), 83 P75 / RTDRXD / RXD3 / NBDD1 (io), 84 P76 / RTDACK / CTX1 / NBDD2 (io), 85 P77 / RTDCLK / CRX1 / NBDD3 (io), 86 P93 / TO16 / SCLKI5 / SCLKO5 (io), 87 P94 / TO17 / TXD5 / DD15 (io), 88 P95 / TO18 / RXD5 / DD14 (io), 89 P96 / TO19 / DD13 (io), 90 P97 / TO20 / DD12 (io), 97 P110 / TO0 / TO29 / DD11 (io), 98 P111 / TO1 / TO30 / DD10 (io), 99 P112 / TO2 / TO31 / DD9 (io), 100 P113 / TO3 / TO32 / DD8 (io), 101 P114 / TO4 / TO33 / DD7 (io), 102 P115 / TO5 / TO34 / DD6 (io), 103 P116 / TO6 / TO35 / DD5 (io), 104 P117 / TO7 / TO36 / DD4 (io), 105 P100 / TO8 (io), 106 P101 / TO9 / CRX0 (io), 107 P102 / TO10 / CTX0 (io), 114 P103 / TO11 / TIN24 (io), 115 P104 / TO12 / TIN25 / DD3 (io), 116 P105 / TO13 / SCLKI4 / SCLKO4 / DD2 (io), 117 P106 / TO14 / TXD4 / DD1 (io), 118 P107 / TO15 / RXD4 / DD0 (io), 119 P124 / TCLK0 / A9 / DD3 (io), 120 P125 / TCLK1 / A10 / DD2 (io), 121 P126 / TCLK2 / ~{CS}2 / DD1 (io), 122 P127 / TCLK3 / ~{CS}3 / DD0 (io), 124 P130 / TIN16 / PWMOFF0 / DIN0 (io), 125 P131 / TIN17 / PWMOFF1 / DIN1 (io), 126 P132 / TIN18 / DIN2 (io), 127 P133 / TIN19 / DIN3 (io), 128 P134 / TIN20 / TXD3 / DIN4 (io), 129 P135 / TIN21 / RXD3 (io), 130 P136 / TIN22 / CRX1 (io), 131 P137 / TIN23 / CTX1 (io), 133 P150 / TIN0 / CLKOUT / ~{WR} (io), 134 P153 / TIN3 / ~{WAIT} (io), 135 P41 / ~{BLW} / ~{BLE} (io), 136 P42 / ~{BHW} / ~{BHE} (io), 139 P43 / ~{RD} (io), 140 P44 / ~{CS}0 / TIN8 (io), 141 P45 / ~{CS}1 / TIN9 (io), 142 P46 / A13 / TIN10 (io), 143 P47 / A14 / TIN11 (io), 144 P220 / CTX0 / ~{HACK} (io)
part B pins: 4 XIN (in), 5 XOUT (out), 42 VREF0 (in), 44 AD0IN0 (in), 45 AD0IN1 (in), 46 AD0IN2 (in), 47 AD0IN3 (in), 48 AD0IN4 (in), 49 AD0IN5 (in), 50 AD0IN6 (in), 51 AD0IN7 (in), 52 AD0IN8 (in), 53 AD0IN9 (in), 54 AD0IN10 (in), 55 AD0IN11 (in), 56 AD0IN12 (in), 57 AD0IN13 (in), 58 AD0IN14 (in), 59 AD0IN15 (in), 77 ~{SBI} (in), 91 ~{RESET} (in), 92 MOD0 (in), 93 MOD1 (in), 94 FP (in), 123 MOD2 (in)
part C pins: 109 JTMS (in), 110 JTCK / NBDCLK (in), 111 JTRST (in), 112 JTDO / ~{NBDEVNT} (out), 113 JTDI / ~{NBDSYNC} (in)
part D pins: 3 VSS (power), 6 VCC-BUS (power), 20 VCC-BUS (power), 21 VSS (power), 43 AVCC0 (power), 60 AVSS0 (power), 61 EXCVCC, 62 VSS (power), 65 VCCER (power), 72 VSS (power), 73 EXCVDD, 95 VCCE (power), 96 VSS (power), 108 VDDE (power), 132 VCCE (power), 137 EXCVCC, 138 VSS (power)

## M32196F8UFP
designator U?
Flash Memory M32R/ECU Series, 32192 Group MCU, 160 MHz, 1M ROM, 64K RAM, 144P6Q-A Pkg, -40 to 105 deg C; Published: 28-Aug-2009; DatasheetVersion: Rev.1.10, Apr-2007; PackageVersion: Sep-2005; PackageReference: PLQP0144KA-A; Publisher: Altium Limited; PackageDescription: 144-Pin Plastic Low Profile QFP, 20 x 20 x 1.4 mm Body, 0.5 mm Pitch; Code_JEITA: P-LQFP144-20x20-0.50; Code_IPC: SQFP50P2200X2200-144; ComponentLink1Description: Manufacturer Link; ComponentLink1URL: http://sg.renesas.com/fmwk.jsp?cnt=m32r_family_landing.jsp&fp=/products/mpumcu/m32r_family/; ComponentLink2Description: Datasheet; ComponentLink2URL: http://documentation.renesas.com/eng/products/mpumcu/rej09b0123_32192_195_196hm.pdf; ComponentLink3Description: Packaging Specification; ComponentLink3URL: http://sg.renesas.com/media/products/common_info/package/pdf/ic/code/plqp0144ka_a.pdf
footprint PLQP0144KA-A_N (Shrink QFP, 144-Leads, Body 20x20mm, Pitch 0.5mm, IPC Medium Density)
footprint PLQP0144KA-A_L (Shrink QFP, 144-Leads, Body 20x20mm, Pitch 0.5mm, IPC High Density)
footprint PLQP0144KA-A_M (Shrink QFP, 144-Leads, Body 20x20mm, Pitch 0.5mm, IPC Low Density)
part A pins: 1 P221 / CRX0 / ~{HREQ} (io), 2 P225 / A12 / ~{CS}3 (io), 7 P224 / A11 / ~{CS}2 (io), 8 P30 / A15 / TIN4 / DD16 (io), 9 P31 / A16 / TIN5 / DD17 (io), 10 P32 / A17 / TIN6 / DD18 (io), 11 P33 / A18 / TIN7 / DD19 (io), 12 P34 / A19 / TIN30 / DD20 (io), 13 P35 / A20 / TIN31 / DD21 (io), 14 P36 / A21 / TIN32 / DD22 (io), 15 P37 / A22 / TIN33 / DD23 (io), 16 P20 / A23 / DD24 (io), 17 P21 / A24 / DD25 (io), 18 P22 / A25 / DD26 (io), 19 P23 / A26 / DD27 (io), 22 P24 / A27 / DD28 (io), 23 P25 / A28 / DD29 (io), 24 P26 / A29 / DD30 (io), 25 P27 / A30 / DD31 (io), 26 P00 / DB0 / TO21 / DD0 (io), 27 P01 / DB1 / TO22 / DD1 (io), 28 P02 / DB2 / TO23 / DD2 (io), 29 P03 / DB3 / TO24 / DD3 (io), 30 P04 / DB4 / TO25 / DD4 (io), 31 P05 / DB5 / TO26 / DD5 (io), 32 P06 / DB6 / TO27 / DD6 (io), 33 P07 / DB7 / TO28 / DD7 (io), 34 P10 / DB8 / TO29 / DD8 (io), 35 P11 / DB9 / TO30 / DD9 (io), 36 P12 / DB10 / TO31 / DD10 (io), 37 P13 / DB11 / TO32 / DD11 (io), 38 P14 / DB12 / TO33 / DD12 (io), 39 P15 / DB13 / TO34 / DD13 (io), 40 P16 / DB14 / TO35 / DD14 (io), 41 P17 / DB15 / TO36 / DD15 (io), 63 P174 / TXD2 / TO28 (io), 64 P175 / RXD2 / TO27 (io), 66 P82 / TXD0 / TO26 (io), 67 P83 / RXD0 / TO25 (io), 68 P84 / SCLKI0 / SCLKO0 / TO24 (io), 69 P85 / TXD1 / TO23 (io), 70 P86 / RXD1 / TO22 (io), 71 P87 / SCLKI1 / SCLKO1 / TO21 (io), 74 P61 (io), 75 P62 (io), 76 P63 (io), 78 P70 / CLKOUT / ~{WR} / BCLK (io), 79 P71 / ~{WAIT} (io), 80 P72 / ~{HREQ} / TIN27 (io), 81 P73 / ~{HACK} / TIN26 (io), 82 P74 / RTDTXD / TXD3 / NBDD0 (io), 83 P75 / RTDRXD / RXD3 / NBDD1 (io), 84 P76 / RTDACK / CTX1 / NBDD2 (io), 85 P77 / RTDCLK / CRX1 / NBDD3 (io), 86 P93 / TO16 / SCLKI5 / SCLKO5 (io), 87 P94 / TO17 / TXD5 / DD15 (io), 88 P95 / TO18 / RXD5 / DD14 (io), 89 P96 / TO19 / DD13 (io), 90 P97 / TO20 / DD12 (io), 97 P110 / TO0 / TO29 / DD11 (io), 98 P111 / TO1 / TO30 / DD10 (io), 99 P112 / TO2 / TO31 / DD9 (io), 100 P113 / TO3 / TO32 / DD8 (io), 101 P114 / TO4 / TO33 / DD7 (io), 102 P115 / TO5 / TO34 / DD6 (io), 103 P116 / TO6 / TO35 / DD5 (io), 104 P117 / TO7 / TO36 / DD4 (io), 105 P100 / TO8 (io), 106 P101 / TO9 / CRX0 (io), 107 P102 / TO10 / CTX0 (io), 114 P103 / TO11 / TIN24 (io), 115 P104 / TO12 / TIN25 / DD3 (io), 116 P105 / TO13 / SCLKI4 / SCLKO4 / DD2 (io), 117 P106 / TO14 / TXD4 / DD1 (io), 118 P107 / TO15 / RXD4 / DD0 (io), 119 P124 / TCLK0 / A9 / DD3 (io), 120 P125 / TCLK1 / A10 / DD2 (io), 121 P126 / TCLK2 / ~{CS}2 / DD1 (io), 122 P127 / TCLK3 / ~{CS}3 / DD0 (io), 124 P130 / TIN16 / PWMOFF0 / DIN0 (io), 125 P131 / TIN17 / PWMOFF1 / DIN1 (io), 126 P132 / TIN18 / DIN2 (io), 127 P133 / TIN19 / DIN3 (io), 128 P134 / TIN20 / TXD3 / DIN4 (io), 129 P135 / TIN21 / RXD3 (io), 130 P136 / TIN22 / CRX1 (io), 131 P137 / TIN23 / CTX1 (io), 133 P150 / TIN0 / CLKOUT / ~{WR} (io), 134 P153 / TIN3 / ~{WAIT} (io), 135 P41 / ~{BLW} / ~{BLE} (io), 136 P42 / ~{BHW} / ~{BHE} (io), 139 P43 / ~{RD} (io), 140 P44 / ~{CS}0 / TIN8 (io), 141 P45 / ~{CS}1 / TIN9 (io), 142 P46 / A13 / TIN10 (io), 143 P47 / A14 / TIN11 (io), 144 P220 / CTX0 / ~{HACK} (io)
part B pins: 4 XIN (in), 5 XOUT (out), 42 VREF0 (in), 44 AD0IN0 (in), 45 AD0IN1 (in), 46 AD0IN2 (in), 47 AD0IN3 (in), 48 AD0IN4 (in), 49 AD0IN5 (in), 50 AD0IN6 (in), 51 AD0IN7 (in), 52 AD0IN8 (in), 53 AD0IN9 (in), 54 AD0IN10 (in), 55 AD0IN11 (in), 56 AD0IN12 (in), 57 AD0IN13 (in), 58 AD0IN14 (in), 59 AD0IN15 (in), 77 ~{SBI} (in), 91 ~{RESET} (in), 92 MOD0 (in), 93 MOD1 (in), 94 FP (in), 123 MOD2 (in)
part C pins: 109 JTMS (in), 110 JTCK / NBDCLK (in), 111 JTRST (in), 112 JTDO / ~{NBDEVNT} (out), 113 JTDI / ~{NBDSYNC} (in)
part D pins: 3 VSS (power), 6 VCC-BUS (power), 20 VCC-BUS (power), 21 VSS (power), 43 AVCC0 (power), 60 AVSS0 (power), 61 EXCVCC, 62 VSS (power), 65 VCCER (power), 72 VSS (power), 73 EXCVDD, 95 VCCE (power), 96 VSS (power), 108 VDDE (power), 132 VCCE (power), 137 EXCVCC, 138 VSS (power)

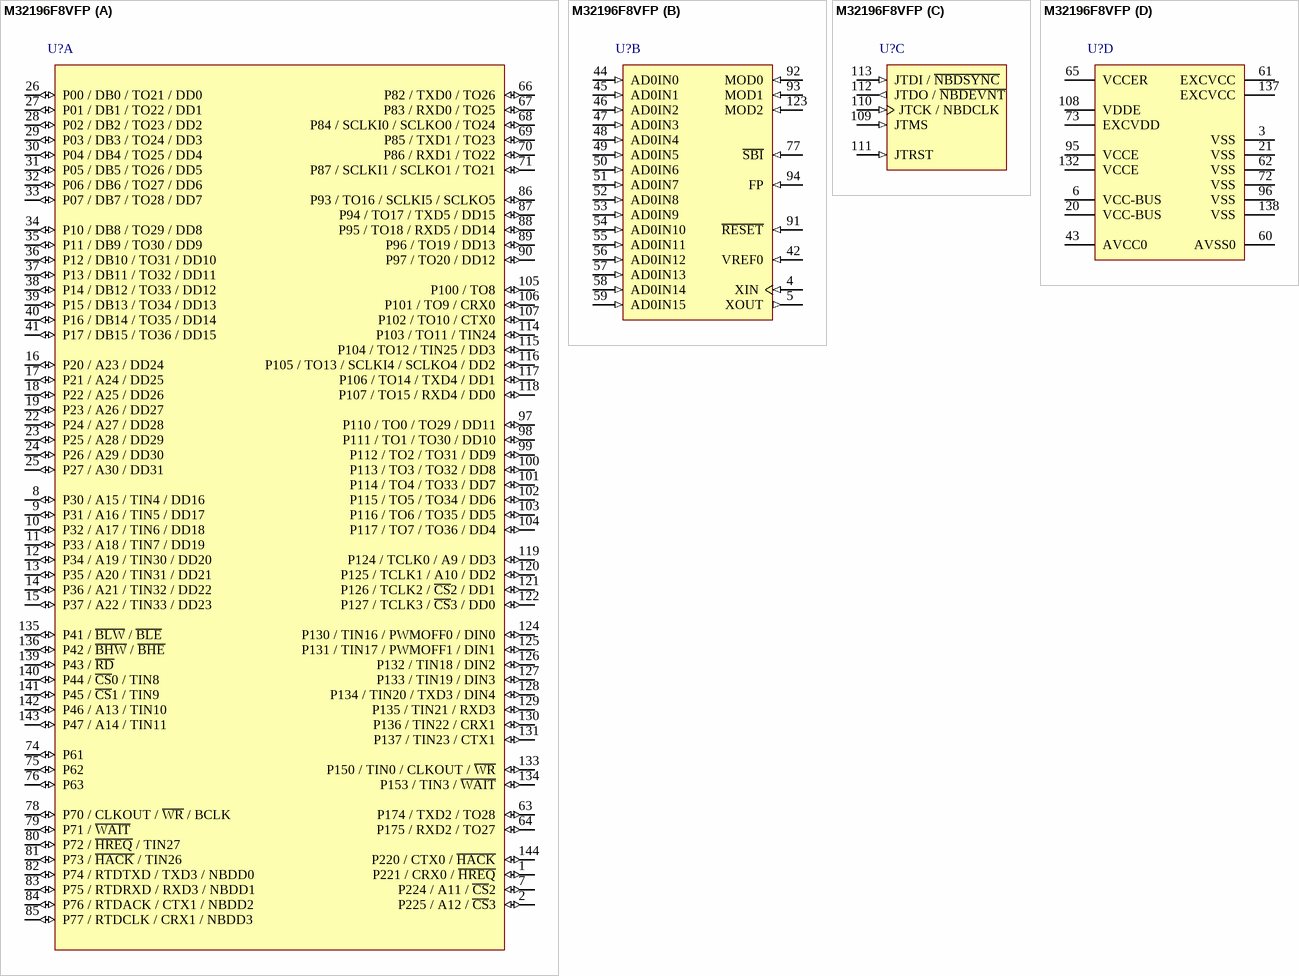
[diagram p8: symbol M32196F8VFP]

## M32196F8VFP
designator U?
Flash Memory M32R/ECU Series, 32192 Group MCU, 128 MHz, 1M ROM, 64K RAM, 144P6Q-A Pkg, -40 to 125 deg C; Published: 28-Aug-2009; DatasheetVersion: Rev.1.10, Apr-2007; PackageVersion: Sep-2005; PackageReference: PLQP0144KA-A; Publisher: Altium Limited; PackageDescription: 144-Pin Plastic Low Profile QFP, 20 x 20 x 1.4 mm Body, 0.5 mm Pitch; Code_JEITA: P-LQFP144-20x20-0.50; Code_IPC: SQFP50P2200X2200-144; ComponentLink1Description: Manufacturer Link; ComponentLink1URL: http://sg.renesas.com/fmwk.jsp?cnt=m32r_family_landing.jsp&fp=/products/mpumcu/m32r_family/; ComponentLink2Description: Datasheet; ComponentLink2URL: http://documentation.renesas.com/eng/products/mpumcu/rej09b0123_32192_195_196hm.pdf; ComponentLink3Description: Packaging Specification; ComponentLink3URL: http://sg.renesas.com/media/products/common_info/package/pdf/ic/code/plqp0144ka_a.pdf
footprint PLQP0144KA-A_N (Shrink QFP, 144-Leads, Body 20x20mm, Pitch 0.5mm, IPC Medium Density)
footprint PLQP0144KA-A_L (Shrink QFP, 144-Leads, Body 20x20mm, Pitch 0.5mm, IPC High Density)
footprint PLQP0144KA-A_M (Shrink QFP, 144-Leads, Body 20x20mm, Pitch 0.5mm, IPC Low Density)
part A pins: 1 P221 / CRX0 / ~{HREQ} (io), 2 P225 / A12 / ~{CS}3 (io), 7 P224 / A11 / ~{CS}2 (io), 8 P30 / A15 / TIN4 / DD16 (io), 9 P31 / A16 / TIN5 / DD17 (io), 10 P32 / A17 / TIN6 / DD18 (io), 11 P33 / A18 / TIN7 / DD19 (io), 12 P34 / A19 / TIN30 / DD20 (io), 13 P35 / A20 / TIN31 / DD21 (io), 14 P36 / A21 / TIN32 / DD22 (io), 15 P37 / A22 / TIN33 / DD23 (io), 16 P20 / A23 / DD24 (io), 17 P21 / A24 / DD25 (io), 18 P22 / A25 / DD26 (io), 19 P23 / A26 / DD27 (io), 22 P24 / A27 / DD28 (io), 23 P25 / A28 / DD29 (io), 24 P26 / A29 / DD30 (io), 25 P27 / A30 / DD31 (io), 26 P00 / DB0 / TO21 / DD0 (io), 27 P01 / DB1 / TO22 / DD1 (io), 28 P02 / DB2 / TO23 / DD2 (io), 29 P03 / DB3 / TO24 / DD3 (io), 30 P04 / DB4 / TO25 / DD4 (io), 31 P05 / DB5 / TO26 / DD5 (io), 32 P06 / DB6 / TO27 / DD6 (io), 33 P07 / DB7 / TO28 / DD7 (io), 34 P10 / DB8 / TO29 / DD8 (io), 35 P11 / DB9 / TO30 / DD9 (io), 36 P12 / DB10 / TO31 / DD10 (io), 37 P13 / DB11 / TO32 / DD11 (io), 38 P14 / DB12 / TO33 / DD12 (io), 39 P15 / DB13 / TO34 / DD13 (io), 40 P16 / DB14 / TO35 / DD14 (io), 41 P17 / DB15 / TO36 / DD15 (io), 63 P174 / TXD2 / TO28 (io), 64 P175 / RXD2 / TO27 (io), 66 P82 / TXD0 / TO26 (io), 67 P83 / RXD0 / TO25 (io), 68 P84 / SCLKI0 / SCLKO0 / TO24 (io), 69 P85 / TXD1 / TO23 (io), 70 P86 / RXD1 / TO22 (io), 71 P87 / SCLKI1 / SCLKO1 / TO21 (io), 74 P61 (io), 75 P62 (io), 76 P63 (io), 78 P70 / CLKOUT / ~{WR} / BCLK (io), 79 P71 / ~{WAIT} (io), 80 P72 / ~{HREQ} / TIN27 (io), 81 P73 / ~{HACK} / TIN26 (io), 82 P74 / RTDTXD / TXD3 / NBDD0 (io), 83 P75 / RTDRXD / RXD3 / NBDD1 (io), 84 P76 / RTDACK / CTX1 / NBDD2 (io), 85 P77 / RTDCLK / CRX1 / NBDD3 (io), 86 P93 / TO16 / SCLKI5 / SCLKO5 (io), 87 P94 / TO17 / TXD5 / DD15 (io), 88 P95 / TO18 / RXD5 / DD14 (io), 89 P96 / TO19 / DD13 (io), 90 P97 / TO20 / DD12 (io), 97 P110 / TO0 / TO29 / DD11 (io), 98 P111 / TO1 / TO30 / DD10 (io), 99 P112 / TO2 / TO31 / DD9 (io), 100 P113 / TO3 / TO32 / DD8 (io), 101 P114 / TO4 / TO33 / DD7 (io), 102 P115 / TO5 / TO34 / DD6 (io), 103 P116 / TO6 / TO35 / DD5 (io), 104 P117 / TO7 / TO36 / DD4 (io), 105 P100 / TO8 (io), 106 P101 / TO9 / CRX0 (io), 107 P102 / TO10 / CTX0 (io), 114 P103 / TO11 / TIN24 (io), 115 P104 / TO12 / TIN25 / DD3 (io), 116 P105 / TO13 / SCLKI4 / SCLKO4 / DD2 (io), 117 P106 / TO14 / TXD4 / DD1 (io), 118 P107 / TO15 / RXD4 / DD0 (io), 119 P124 / TCLK0 / A9 / DD3 (io), 120 P125 / TCLK1 / A10 / DD2 (io), 121 P126 / TCLK2 / ~{CS}2 / DD1 (io), 122 P127 / TCLK3 / ~{CS}3 / DD0 (io), 124 P130 / TIN16 / PWMOFF0 / DIN0 (io), 125 P131 / TIN17 / PWMOFF1 / DIN1 (io), 126 P132 / TIN18 / DIN2 (io), 127 P133 / TIN19 / DIN3 (io), 128 P134 / TIN20 / TXD3 / DIN4 (io), 129 P135 / TIN21 / RXD3 (io), 130 P136 / TIN22 / CRX1 (io), 131 P137 / TIN23 / CTX1 (io), 133 P150 / TIN0 / CLKOUT / ~{WR} (io), 134 P153 / TIN3 / ~{WAIT} (io), 135 P41 / ~{BLW} / ~{BLE} (io), 136 P42 / ~{BHW} / ~{BHE} (io), 139 P43 / ~{RD} (io), 140 P44 / ~{CS}0 / TIN8 (io), 141 P45 / ~{CS}1 / TIN9 (io), 142 P46 / A13 / TIN10 (io), 143 P47 / A14 / TIN11 (io), 144 P220 / CTX0 / ~{HACK} (io)
part B pins: 4 XIN (in), 5 XOUT (out), 42 VREF0 (in), 44 AD0IN0 (in), 45 AD0IN1 (in), 46 AD0IN2 (in), 47 AD0IN3 (in), 48 AD0IN4 (in), 49 AD0IN5 (in), 50 AD0IN6 (in), 51 AD0IN7 (in), 52 AD0IN8 (in), 53 AD0IN9 (in), 54 AD0IN10 (in), 55 AD0IN11 (in), 56 AD0IN12 (in), 57 AD0IN13 (in), 58 AD0IN14 (in), 59 AD0IN15 (in), 77 ~{SBI} (in), 91 ~{RESET} (in), 92 MOD0 (in), 93 MOD1 (in), 94 FP (in), 123 MOD2 (in)
part C pins: 109 JTMS (in), 110 JTCK / NBDCLK (in), 111 JTRST (in), 112 JTDO / ~{NBDEVNT} (out), 113 JTDI / ~{NBDSYNC} (in)
part D pins: 3 VSS (power), 6 VCC-BUS (power), 20 VCC-BUS (power), 21 VSS (power), 43 AVCC0 (power), 60 AVSS0 (power), 61 EXCVCC, 62 VSS (power), 65 VCCER (power), 72 VSS (power), 73 EXCVDD, 95 VCCE (power), 96 VSS (power), 108 VDDE (power), 132 VCCE (power), 137 EXCVCC, 138 VSS (power)